# EAGLE library part 750810014 (library WE-OLSTM)
WE-OLSTM Offline Flyback Transformers Characteristics Nominal input voltage: 85–265 VAC (120–375 VDC) Operating temperature: –40 °C to +125 °C Isolation voltage: 2 kVAC up to 5 kVAC Multiple output options Options for fixed frequency or quasi-resonant mode operation Most products meet reinforced insulation Applications Offline-switch mode power supplies Especially designed for several ICs from STMicroelectronics Auxiliary power supply Home appliances Consumer electronics <https://www.we-online.com/components/media/o781306v209%20FAMILY-MID-OLSTM.jpg> Details see: www.we-online.com/en/components/products/WE-OLSTM <www.we-online.com/en/components/products/WE-OLSTM/?utm_source=eagle_model&utm_medium=description_link&utm_campaign=eisos_eagle> Created by Leviosa 2024-04-15 2024(C) Wurth Elektronik
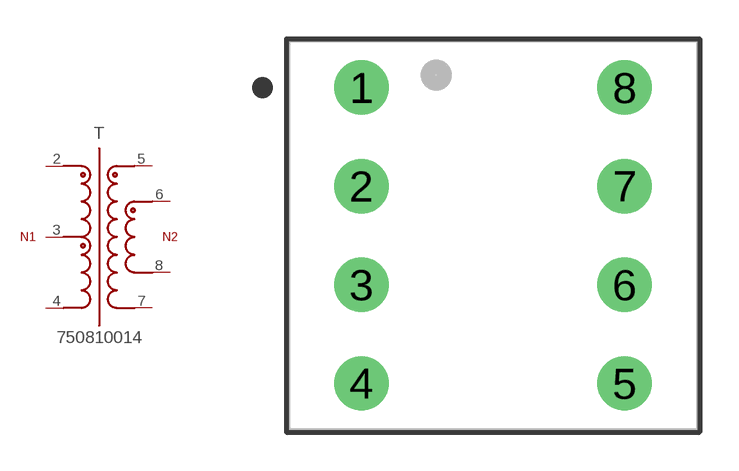
[diagram p1: symbol with the pads of WE-OLSTM_EE13_L15W15.75H18.5; footprint WE-OLSTM_EE13_L15W15.75H18.5]

Designator prefix T

## 750810014 (DATASHEET-URL: https://www.we-online.com/redexpert/spec/750810014?ae; FSWITCH: 60kHz; IOUT1: 1200mA; ISAT: 530mA; L: 2mH; MOUNT: THT; N: 12.36:1; PART-NUMBER: 750810014; SIZE: EE13/7/6; VALUE: 750810014; VIN: 85 - 265 V (AC); VOUT1: 5V; VT: 1875V(AC))  [WE-OLSTM_EE13_L15W15.75H18.5]
2  2  pas
3  3  pas
4  4  pas
5  5  pas
6  6  pas
7  7  pas
8  8  pas

## Footprint WE-OLSTM_EE13_L15W15.75H18.5 (pad centres in mm)
WE-OLSTM Offline Flyback Transformers for STMicroelectronics Size: EE13, THT, 8Pins LXWXH=15X15.75X18.5mm
drill 1.4: 1 -5.08,5.715; 2 -5.08,1.905; 3 -5.08,-1.905; 4 -5.08,-5.715; 5 5.08,-5.715; 6 5.08,-1.905; 7 5.08,1.905; 8 5.08,5.715